# Altium footprint library smd-special.PCBLIB: 55 footprints (part 1 of 4)
Each footprint in its own frame and in the unit in brackets; x right, y up, seen from the top. Pads: shape width x height; smd on the part's side, far side on the other; paste and mask are expansions set on the pad; w line width, h text height; cw(c..) or ccw(c..) is an arc to the next point about the centre after c.
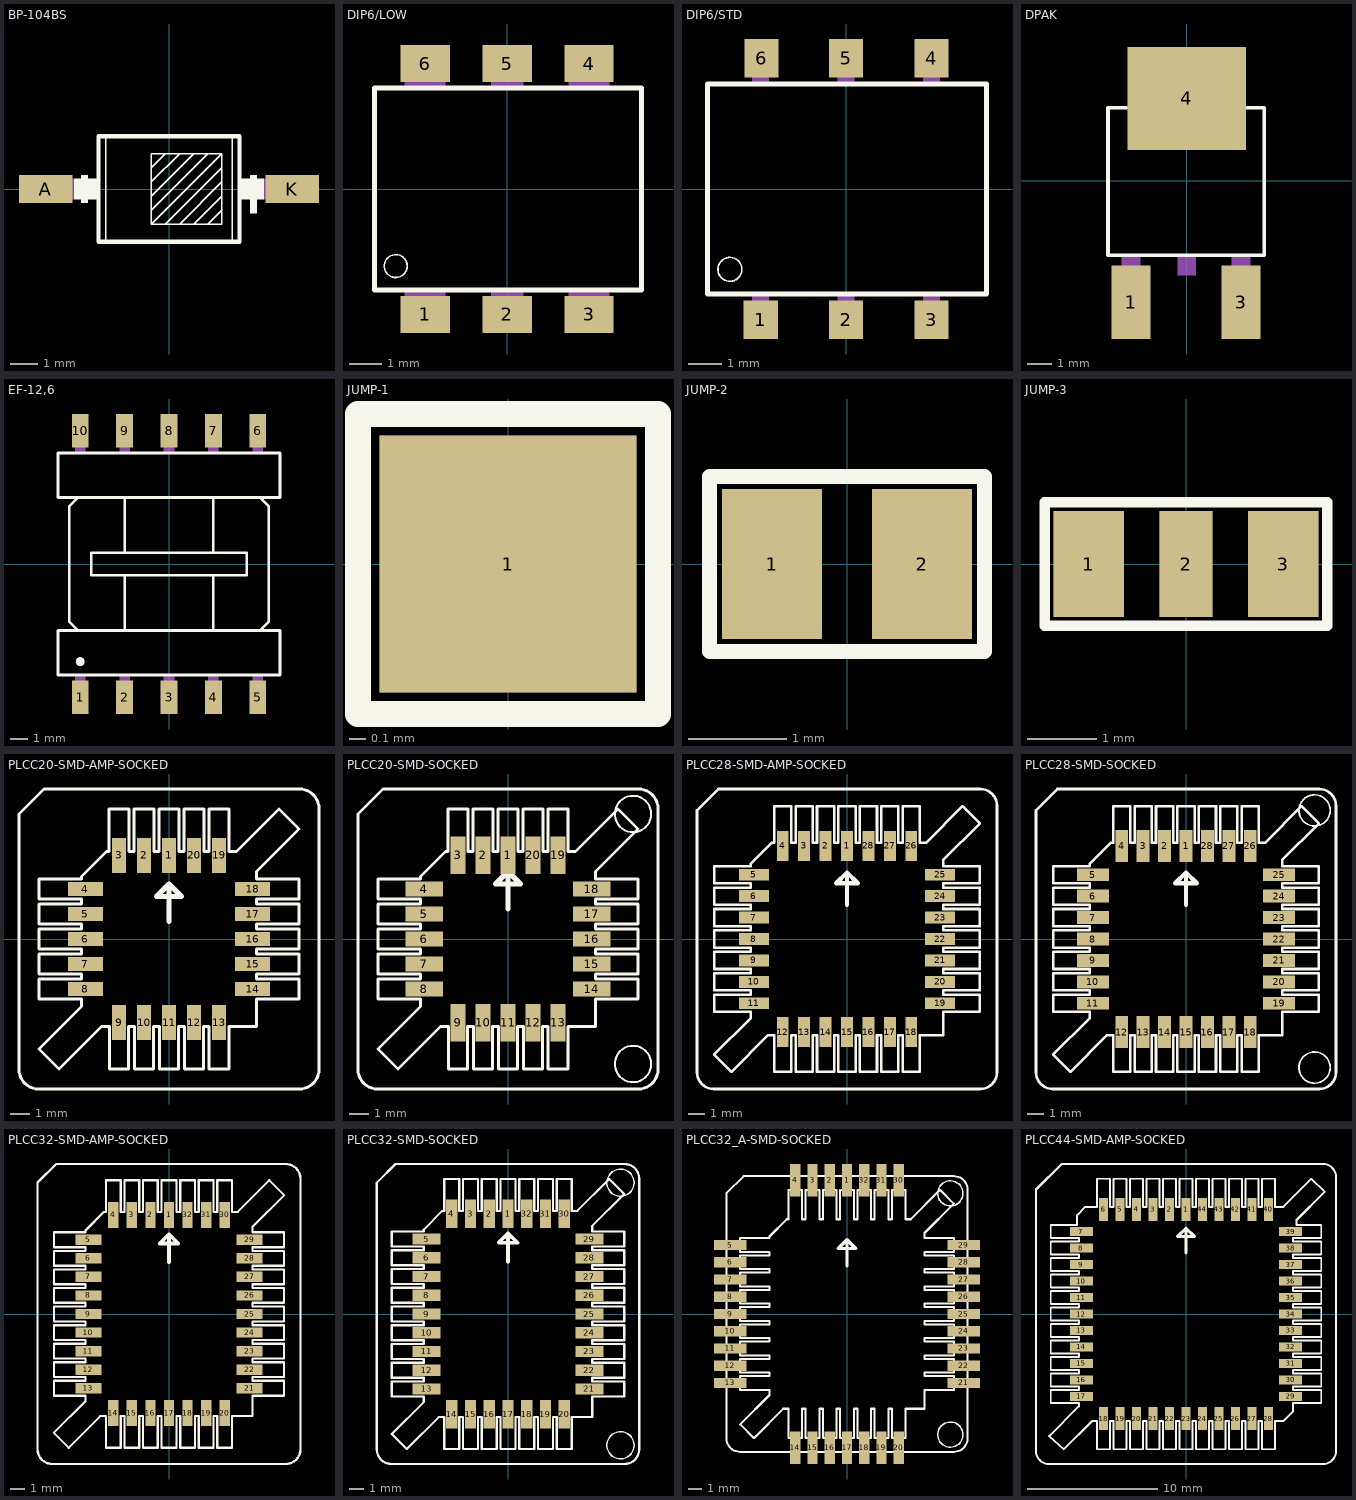
[diagram p0: the footprints below, top view; thin cyan lines are the x and y axes]

## BP-104BS [mil]
pads (2):
  rect 76x40 smd: A(-175,0) K(175,0)
Top Overlay:
  rectangle: 115,-35 125,20
  rectangle: -125,-20 -115,20
  rectangle: 100,-15 135,15
  rectangle: -135,-15 -100,15
  lines w2: -90,-75 -90,75 ; 90,-75 90,75 ; -25,-50 -25,-30 ; -25,-50 75,50 ; -25,-50 -5,-50 ; -25,-30 -25,-10 ; -25,-30 55,50 ; -25,-10 -25,10 ; -25,-10 35,50 ; -25,10 -25,30 ; -25,10 15,50 ; -25,30 -25,50 -5,50 ; -25,30 -5,50 ; -5,-50 15,-50 ; -5,-50 75,30 ; -5,50 15,50 ; 15,-50 35,-50 ; 15,-50 75,10 ; 15,50 35,50 ; 35,-50 55,-50 ; 35,-50 75,-10 ; 35,50 55,50 ; 55,-50 75,-50 75,-30 ; 55,-50 75,-30 ; 55,50 75,50 ; 75,-30 75,-10 ; 75,-10 75,10 ; 75,10 75,30 ; 75,30 75,50
  lines w6: -100,-75 -100,75 -90,75 90,75 100,75 100,-75 90,-75 -90,-75 -100,-75
Mechanical 16:
  rectangle: 135,-15 185,15
  rectangle: -185,-15 -135,15

## DIP6/LOW [mil]
pads (6):
  rect 60x45 smd: 1(-100,-153) 2(0,-153) 3(100,-153) 4(100,153) 5(0,153) 6(-100,153)
Top Overlay:
  circle w2: c-136,-94 r14
  lines w6: -162,-123 164,-123 164,123 -162,123 -162,-123
Mechanical 16:
  rectangle: -20,125 20,159
  rectangle: 75,125 125,159
  rectangle: -125,125 -75,159
  rectangle: -125,-159 -75,-125
  rectangle: 75,-159 125,-125
  rectangle: -20,-159 20,-125

## DIP6/STD [mil]
pads (6):
  rect 40x45 smd: 1(-100,-153) 2(0,-153) 3(100,-153) 4(100,153) 5(0,153) 6(-99,153)
Top Overlay:
  circle w2: c-136,-94 r14
  lines w6: -162,-123 164,-123 164,123 -162,123 -162,-123
Mechanical 16:
  rectangle: -110,-159 -90,-125
  rectangle: 90,-159 110,-125
  rectangle: 90,125 110,159
  rectangle: -110,125 -90,159
  rectangle: -10,125 10,159
  rectangle: -10,-159 10,-125

## DPAK [mil]
pads (3):
  rect 63x118 smd: 1(-89,-194) 3(87,-194)
  rect 190x165 smd: 4(0,132)
Top Overlay:
  lines w6: -97,117 -126,117 -126,-119 124,-119 124,117 97,117
Mechanical 16:
  rectangle: -104,-226 -74,-121
  rectangle: 72,-226 102,-121
  rectangle: -15,-151 15,-121
  lines w6: -97,117 97,117
  lines w40: -68,139 67,139
  text "1" at -95,-112 h37.2
  text "2" at -8,-112 h37.2
  text "3" at 78,-112 h37.2
  text "4" at -13,85 h37.2

## EF-12,6 [mil]
pads (10):
  rect 38x76 smd: 1(-200,-300) 2(-100,-300) 3(0,-300) 4(100,-300) 5(200,-300) 6(200,300) 7(100,300) 8(0,300) 9(-100,300) 10(-200,300)
Top Overlay:
  circle w10: c-200,-220 r5
  lines w6: -205,-150 -100,-150 ; -205,-150 -225,-130 -225,130 -205,150 ; -205,-150 -250,-150 -250,-250 250,-250 250,-150 205,-150 ; -205,150 -100,150 ; -205,150 -250,150 -250,250 250,250 250,150 205,150 ; -100,-150 100,-150 ; -100,-150 -100,-25 ; -100,-25 100,-25 ; -100,-25 -175,-25 -175,25 -100,25 ; -100,25 -100,150 ; -100,25 100,25 ; -100,150 100,150 ; 100,-150 100,-25 ; 100,-150 205,-150 ; 100,-25 175,-25 175,25 100,25 ; 100,25 100,150 ; 100,150 205,150 ; 205,-150 225,-130 225,130 205,150
Mechanical 16:
  rectangle: -12,-325 12,-252
  rectangle: 88,-325 112,-252
  rectangle: 188,-325 212,-252
  rectangle: -112,-325 -88,-252
  rectangle: -212,-325 -188,-252
  rectangle: 188,250 212,323
  rectangle: 88,250 112,323
  rectangle: -12,250 12,323
  rectangle: -112,250 -88,323
  rectangle: -212,250 -188,323

## JUMP-1 [mil]
pads (1):
  rect 60x60 smd: 1(0,0)
Top Overlay:
  lines w6: -35,-35 35,-35 35,35 -35,35 -35,-35
Mechanical 16:
  rectangle: -30,-30 30,30

## JUMP-2 [mil]
pads (2):
  rect 40x60 smd: 1(-30,0) 2(30,0)
Top Overlay:
  lines w6: -55,-35 55,-35 55,35 -55,35 -55,-35
Top Solder:
  rectangle: -55,-35 55,35
Mechanical 16:
  rectangle: 10,-30 50,30
  rectangle: -50,-30 -10,30

## JUMP-3 [mil]
pads (3):
  rect 40x60 smd: 1(-55,0) 3(55,0)
  rect 30x60 smd: 2(0,0)
Top Overlay:
  lines w6: -80,-35 80,-35 80,35 -80,35 -80,-35
Top Solder:
  rectangle: -80,-35 80,35
Mechanical 16:
  rectangle: 35,-30 75,30
  rectangle: -15,-30 15,30
  rectangle: -75,-30 -35,30

## PLCC20-SMD-AMP-SOCKED [mil]
pads (20):
  rect 27.56x70.08 smd: 1(0,167.13) 2(-50,167.13) 3(-100,167.13) 9(-100,-167.13) 10(-50,-167.13) 11(0,-167.13) 12(50,-167.13) 13(100,-167.13) 19(100,167.13) 20(50,167.13)
  rect 70.08x27.56 smd: 4(-167.13,100) 5(-167.13,50) 6(-167.13,0) 7(-167.13,-50) 8(-167.13,-100) 14(167.13,-100) 15(167.13,-50) 16(167.13,0) 17(167.13,50) 18(167.13,100)
Top Overlay:
  lines w6: -300,-260.63 -300,250 -250,300 260.63,300 cw(c260.63,260.63) 300,260.63 300,-260.63 cw(c260.63,-260.63) 260.63,-300 -260.63,-300 cw(c-260.63,-260.63) -300,-260.63 ; -260,-220 -220,-260 -135,-175 -119,-175 -119,-260 -81,-260 -81,-175 -69,-175 -69,-260 -31,-260 -31,-175 -19,-175 -19,-260 19,-260 19,-175 31,-175 31,-260 69,-260 69,-175 80,-175 80,-260 120,-260 120,-175 175,-175 175,-120 260,-120 260,-80 175,-80 175,-70 260,-70 260,-30 175,-30 175,-20 260,-20 260,20 175,20 175,30 260,30 260,70 175,70 175,80 260,80 260,120 175,120 175,135 260,220 220,260 135,175 120,175 120,260 80,260 80,175 70,175 70,260 30,260 30,175 20,175 20,260 -20,260 -20,175 -30,175 -30,260 -70,260 -70,175 -80,175 -80,260 -120,260 -120,175 -125,175 -175,125 -175,120 -260,120 -260,80 -175,80 -175,70 -260,70 -260,30 -175,30 -175,20 -260,20 -260,-20 -175,-20 -175,-30 -260,-30 -260,-70 -175,-70 -175,-80 -260,-80 -260,-120 -175,-120 -175,-135 -260,-220
  lines w10: 0,35 0,110 ; 0,110 25,85 -25,85 0,110

## PLCC20-SMD-SOCKED [mil]
pads (20):
  rect 29.92x75.2 smd: 1(0,167.13) 2(-50,167.13) 3(-100,167.13) 9(-100,-167.13) 10(-50,-167.13) 11(0,-167.13) 12(50,-167.13) 13(100,-167.13) 19(100,167.13) 20(50,167.13)
  rect 75.2x29.92 smd: 4(-167.13,100) 5(-167.13,50) 6(-167.13,0) 7(-167.13,-50) 8(-167.13,-100) 14(167.13,-100) 15(167.13,-50) 16(167.13,0) 17(167.13,50) 18(167.13,100)
Top Overlay:
  circle w4: c250,-250 r36.4
  circle w4: c250,250 r36.4
  lines w6: -300,-260.63 -300,250 -250,300 260.63,300 cw(c260.63,260.63) 300,260.63 300,-260.63 cw(c260.63,-260.63) 260.63,-300 -260.63,-300 cw(c-260.63,-260.63) -300,-260.63 ; -260,-220 -220,-260 -135,-175 -119,-175 -119,-260 -81,-260 -81,-175 -69,-175 -69,-260 -31,-260 -31,-175 -19,-175 -19,-260 19,-260 19,-175 31,-175 31,-260 69,-260 69,-175 80,-175 80,-260 120,-260 120,-175 175,-175 175,-120 260,-120 260,-80 175,-80 175,-70 260,-70 260,-30 175,-30 175,-20 260,-20 260,20 175,20 175,30 260,30 260,70 175,70 175,80 260,80 260,120 175,120 175,135 260,220 220,260 135,175 120,175 120,260 80,260 80,175 70,175 70,260 30,260 30,175 20,175 20,260 -20,260 -20,175 -30,175 -30,260 -70,260 -70,175 -80,175 -80,260 -120,260 -120,175 -125,175 -175,125 -175,120 -260,120 -260,80 -175,80 -175,70 -260,70 -260,30 -175,30 -175,20 -260,20 -260,-20 -175,-20 -175,-30 -260,-30 -260,-70 -175,-70 -175,-80 -260,-80 -260,-120 -175,-120 -175,-135 -260,-220
  lines w10: 0,60 0,135 ; 0,135 25,110 -25,110 0,135

## PLCC28-SMD-AMP-SOCKED [mil]
pads (28):
  rect 27.56x70.08 smd: 1(0,217.13) 2(-50,217.13) 3(-100,217.13) 4(-150,217.13) 12(-150,-217.13) 13(-100,-217.13) 14(-50,-217.13) 15(0,-217.13) 16(50,-217.13) 17(100,-217.13) 18(150,-217.13) 26(150,217.13) 27(100,217.13) 28(50,217.13)
  rect 70.08x27.56 smd: 5(-217.13,150) 6(-217.13,100) 7(-217.13,50) 8(-217.13,0) 9(-217.13,-50) 10(-217.13,-100) 11(-217.13,-150) 19(217.13,-150) 20(217.13,-100) 21(217.13,-50) 22(217.13,0) 23(217.13,50) 24(217.13,100) 25(217.13,150)
Top Overlay:
  lines w6: -350,-310.63 ccw(c-310.63,-310.63) -310.63,-350 310.63,-350 ccw(c310.63,-310.63) 350,-310.63 350,310.63 ccw(c310.63,310.63) 310.63,350 -300,350 -350,300 -350,-310.63 ; -310,-270 -270,-310 -185,-225 -170,-225 -170,-310 -130,-310 -130,-225 -120,-225 -120,-310 -80,-310 -80,-225 -70,-225 -70,-310 -30,-310 -30,-225 -20,-225 -20,-310 20,-310 20,-225 30,-225 30,-310 70,-310 70,-225 80,-225 80,-310 120,-310 120,-225 130,-225 130,-310 170,-310 170,-225 225,-225 225,-170 310,-170 310,-130 225,-130 225,-120 310,-120 310,-80 225,-80 225,-70 310,-70 310,-30 225,-30 225,-20 310,-20 310,20 225,20 225,30 310,30 310,70 225,70 225,80 310,80 310,120 225,120 225,130 310,130 310,170 225,170 225,185 310,270 270,310 185,225 170,225 170,310 130,310 130,225 120,225 120,310 80,310 80,225 70,225 70,310 30,310 30,225 20,225 20,310 -20,310 -20,225 -30,225 -30,310 -70,310 -70,225 -80,225 -80,310 -120,310 -120,225 -130,225 -130,310 -170,310 -170,225 -175,225 -225,175 -225,170 -310,170 -310,130 -225,130 -225,120 -310,120 -310,80 -225,80 -225,70 -310,70 -310,30 -225,30 -225,20 -310,20 -310,-20 -225,-20 -225,-30 -310,-30 -310,-70 -225,-70 -225,-80 -310,-80 -310,-120 -225,-120 -225,-130 -310,-130 -310,-170 -225,-170 -225,-185 -310,-270
  lines w10: 0,80 0,155 ; 0,155 25,130 -25,130 0,155

## PLCC28-SMD-SOCKED [mil]
pads (28):
  rect 29.92x75.2 smd: 1(0,217.13) 2(-50,217.13) 3(-100,217.13) 4(-150,217.13) 12(-150,-217.13) 13(-100,-217.13) 14(-50,-217.13) 15(0,-217.13) 16(50,-217.13) 17(100,-217.13) 18(150,-217.13) 26(150,217.13) 27(100,217.13) 28(50,217.13)
  rect 75.2x29.92 smd: 5(-217.13,150) 6(-217.13,100) 7(-217.13,50) 8(-217.13,0) 9(-217.13,-50) 10(-217.13,-100) 11(-217.13,-150) 19(217.13,-150) 20(217.13,-100) 21(217.13,-50) 22(217.13,0) 23(217.13,50) 24(217.13,100) 25(217.13,150)
Top Overlay:
  circle w4: c300,300 r36.4
  circle w4: c300,-300 r36.4
  lines w6: -350,-310.63 ccw(c-310.63,-310.63) -310.63,-350 310.63,-350 ccw(c310.63,-310.63) 350,-310.63 350,310.63 ccw(c310.63,310.63) 310.63,350 -300,350 -350,300 -350,-310.63 ; -310,-270 -270,-310 -185,-225 -170,-225 -170,-310 -130,-310 -130,-225 -120,-225 -120,-310 -80,-310 -80,-225 -70,-225 -70,-310 -30,-310 -30,-225 -20,-225 -20,-310 20,-310 20,-225 30,-225 30,-310 70,-310 70,-225 80,-225 80,-310 120,-310 120,-225 130,-225 130,-310 170,-310 170,-225 225,-225 225,-170 310,-170 310,-130 225,-130 225,-120 310,-120 310,-80 225,-80 225,-70 310,-70 310,-30 225,-30 225,-20 310,-20 310,20 225,20 225,30 310,30 310,70 225,70 225,80 310,80 310,120 225,120 225,130 310,130 310,170 225,170 225,185 310,270 270,310 185,225 170,225 170,310 130,310 130,225 120,225 120,310 80,310 80,225 70,225 70,310 30,310 30,225 20,225 20,310 -20,310 -20,225 -30,225 -30,310 -70,310 -70,225 -80,225 -80,310 -120,310 -120,225 -130,225 -130,310 -170,310 -170,225 -175,225 -225,175 -225,170 -310,170 -310,130 -225,130 -225,120 -310,120 -310,80 -225,80 -225,70 -310,70 -310,30 -225,30 -225,20 -310,20 -310,-20 -225,-20 -225,-30 -310,-30 -310,-70 -225,-70 -225,-80 -310,-80 -310,-120 -225,-120 -225,-130 -310,-130 -310,-170 -225,-170 -225,-185 -310,-270
  lines w10: 0,80 0,155 ; 0,155 25,130 -25,130 0,155

## PLCC32-SMD-AMP-SOCKED [mil]
pads (32):
  rect 27.56x70.08 smd: 1(0,267.13) 2(-50,267.13) 3(-100,267.13) 4(-150,267.13) 14(-150,-267.13) 15(-100,-267.13) 16(-50,-267.13) 17(0,-267.13) 18(50,-267.13) 19(100,-267.13) 20(150,-267.13) 30(150,267.13) 31(100,267.13) 32(50,267.13)
  rect 70.08x27.56 smd: 5(-217.13,200) 6(-217.13,150) 7(-217.13,100) 8(-217.13,50) 9(-217.13,0) 10(-217.13,-50) 11(-217.13,-100) 12(-217.13,-150) 13(-217.13,-200) 21(217.13,-200) 22(217.13,-150) 23(217.13,-100) 24(217.13,-50) 25(217.13,0) 26(217.13,50) 27(217.13,100) 28(217.13,150) 29(217.13,200)
Top Overlay:
  drawing of 151 lines, arcs and shapes, not listed

## PLCC32-SMD-SOCKED [mil]
pads (32):
  rect 29.92x75.2 smd: 1(0,267.13) 2(-50,267.13) 3(-100,267.13) 4(-150,267.13) 14(-150,-267.13) 15(-100,-267.13) 16(-50,-267.13) 17(0,-267.13) 18(50,-267.13) 19(100,-267.13) 20(150,-267.13) 30(150,267.13) 31(100,267.13) 32(50,267.13)
  rect 75.2x29.92 smd: 5(-217.13,200) 6(-217.13,150) 7(-217.13,100) 8(-217.13,50) 9(-217.13,0) 10(-217.13,-50) 11(-217.13,-100) 12(-217.13,-150) 13(-217.13,-200) 21(217.13,-200) 22(217.13,-150) 23(217.13,-100) 24(217.13,-50) 25(217.13,0) 26(217.13,50) 27(217.13,100) 28(217.13,150) 29(217.13,200)
Top Overlay:
  drawing of 153 lines, arcs and shapes, not listed

## PLCC32_A-SMD-SOCKED [mm]
pads (32):
  rect 0.75x2.4 smd: 1(0,9.855) 2(-1.27,9.855) 3(-2.54,9.855) 4(-3.81,9.855) 14(-3.81,-9.855) 15(-2.54,-9.855) 16(-1.27,-9.855) 17(0,-9.855) 18(1.27,-9.855) 19(2.54,-9.855) 20(3.81,-9.855) 30(3.81,9.855) 31(2.54,9.855) 32(1.27,9.855)
  rect 2.4x0.75 smd: 5(-8.605,5.08) 6(-8.605,3.81) 7(-8.605,2.54) 8(-8.605,1.27) 9(-8.605,0) 10(-8.605,-1.27) 11(-8.605,-2.54) 12(-8.605,-3.81) 13(-8.605,-5.08) 21(8.605,-5.08) 22(8.605,-3.81) 23(8.605,-2.54) 24(8.605,-1.27) 25(8.605,0) 26(8.605,1.27) 27(8.605,2.54) 28(8.605,3.81) 29(8.605,5.08)
Top Overlay:
  drawing of 153 lines, arcs and shapes, not listed

## PLCC44-SMD-AMP-SOCKED [mil]
pads (44):
  rect 27.56x70.08 smd: 1(0,317.13) 2(-50,317.13) 3(-100,317.13) 4(-150,317.13) 5(-200,317.13) 6(-250,317.13) 18(-250,-317.13) 19(-200,-317.13) 20(-150,-317.13) 21(-100,-317.13) 22(-50,-317.13) 23(0,-317.13) 24(50,-317.13) 25(100,-317.13) 26(150,-317.13) 27(200,-317.13) 28(250,-317.13) 40(250,317.13) 41(200,317.13) 42(150,317.13) 43(100,317.13) 44(50,317.13)
  rect 70.08x27.56 smd: 7(-317.13,250) 8(-317.13,200) 9(-317.13,150) 10(-317.13,100) 11(-317.13,50) 12(-317.13,0) 13(-317.13,-50) 14(-317.13,-100) 15(-317.13,-150) 16(-317.13,-200) 17(-317.13,-250) 29(317.13,-250) 30(317.13,-200) 31(317.13,-150) 32(317.13,-100) 33(317.13,-50) 34(317.01,0) 35(317.13,50) 36(317.13,100) 37(317.13,150) 38(317.13,200) 39(317.13,250)
Top Overlay:
  drawing of 200 lines, arcs and shapes, not listed